# Altium footprint library BLE-Control.PcbLib: 56 footprints (part 4 of 4)
Each footprint in its own frame and in the unit in brackets; x right, y up, seen from the top. Pads: shape width x height; smd on the part's side, far side on the other; paste and mask are expansions set on the pad; w line width, h text height; cw(c..) or ccw(c..) is an arc to the next point about the centre after c.
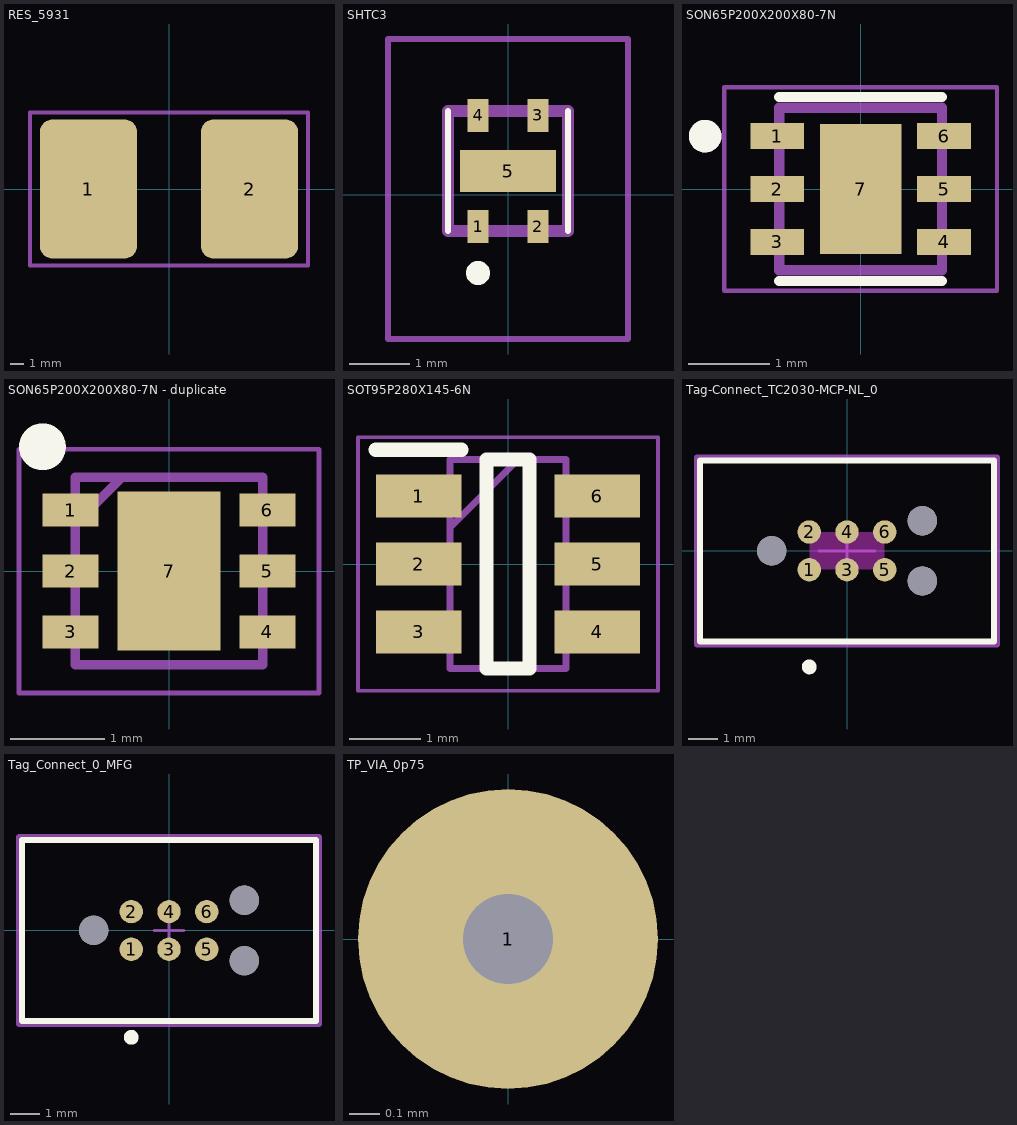
[diagram p3: the footprints below, top view; thin cyan lines are the x and y axes]

## RES_5931 [mm]
pads (2):
  rrect25% 7x10 smd: 1(-5.8,0) 2(5.8,0)
Top 3D Body:
  lines w0.3: -10,-5.5 10,-5.5 10,5.5 -10,5.5 -10,0.5 -10,-5.5
  text "'.Designator'" at -5.815,-0.9 h1
3D body "WSLP5931.stp": height 1.92, standoff 0, extent -7.5,-3.875 7.5,3.875

## SHTC3 [mm]
pads (5):
  rect 0.35x0.55 smd: 1(-0.5,-0.525) 2(0.5,-0.525) 3(0.5,1.325) 4(-0.5,1.325)
  rect 1.6x0.7 smd: 5(0,0.4)
Top Overlay:
  lines w0.1: -1,-0.6 -1,1.4 ; 1,-0.6 1,1.4
  lines w0.2: -0.6,-1.3 ccw(c-0.5,-1.3) -0.4,-1.3 ccw(c-0.5,-1.3) -0.6,-1.3
Top Courtyard:
  lines w0.2: -1,-0.6 1,-0.6 1,1.4 -1,1.4 -1,-0.6
Bottom Assembly:
  lines w0.1: -2,-2.4 2,-2.4 2,2.6 -2,2.6 -2,-2.4

## SON65P200X200X80-7N [mm]
pads (7):
  rect 0.66x0.32 smd: 1(-1.025,0.65) 2(-1.025,0) 3(-1.025,-0.65) 4(1.025,-0.65) 5(1.025,0) 6(1.025,0.65)
  rect 1x1.6 smd paste-2: 7(0,0)
Top Overlay:
  circle w0.2: c-1.91,0.65 r0.1
  lines w0.127: -1,-1.13 1,-1.13 ; -1,1.13 1,1.13
Top Paste:
  region: 0.316,-0.506 -0.316,-0.506 -0.316,0.506 0.316,0.506
Top 3D Body:
  circle w0.2: c-1.91,0.65 r0.1
  lines w0.127: -1,-1 1,-1 1,1 -1,1 -1,-1
Top Courtyard:
  lines w0.05: -1.675,-1.25 1.675,-1.25 1.675,1.25 -1.675,1.25 -1.675,-1.25
3D body "step_temp.STEP": height 0.8, standoff 0, extent -1,-1 1,1

## SON65P200X200X80-7N - duplicate [mm]
pads (7):
  rect 0.6x0.35 smd: 1(-1.05,0.65) 2(-1.05,0) 3(-1.05,-0.65) 4(1.05,-0.65) 5(1.05,0) 6(1.05,0.65)
  rect 1.1x1.7 smd: 7(0,0)
Top Overlay:
  circle w0.25: c-1.35,1.325 r0.125
Top 3D Body:
  lines w0.1: -1,0.5 -0.5,1 ; -1,-1 1,-1 1,1 -1,1 -1,-1
Top Courtyard:
  lines w0.05: -1.6,-1.3 1.6,-1.3 1.6,1.3 -1.6,1.3 -1.6,-1.3
3D body "TMP117NAIDRVR.stp": height 0.8, standoff 0, extent -1,-1 1,1

## SOT95P280X145-6N [mm]
pads (6):
  rect 1.2x0.6 smd: 1(-1.25,0.95) 2(-1.25,0) 3(-1.25,-0.95) 4(1.25,-0.95) 5(1.25,0) 6(1.25,0.95)
Top Overlay:
  lines w0.2: -1.85,1.6 -0.65,1.6 ; -0.3,-1.462 -0.3,1.462 0.3,1.462 0.3,-1.462 -0.3,-1.462
Top Courtyard:
  lines w0.1: -0.812,0.512 0.138,1.462 ; -0.812,-1.462 -0.812,1.462 0.812,1.462 0.812,-1.462 -0.812,-1.462
Bottom Assembly:
  lines w0.05: -2.1,-1.775 -2.1,1.775 2.1,1.775 2.1,-1.775 -2.1,-1.775

## Tag-Connect_TC2030-MCP-NL_0 [mil]
pads (9):
  round 30.98 smd paste-39370.1 mask+0: 1(-50,-25) 2(-50,25) 3(0,-25) 4(0,25) 5(50,-25) 6(50,25)
  round 39.02 hole 39.02 unplated paste-99999 mask+0: ""(-100,0) ""(100,-40) ""(100,40)
Top Overlay:
  circle w9.84: c-50,-153.94 r4.92
  lines w7.87: -195,-120 -195,120 195,120 195,-120 -195,-120
Keep-Out Layer:
  rectangle: -50,-25 50,25
Mechanical 10:
  lines w7.87: -198.94,-123.94 -198.94,123.94 198.94,123.94 198.94,-123.94 -198.94,-123.94
  text ".Designator" at 0,0 h39.37
Mechanical 12:
  lines w5.91: -195,-120 -195,120 195,120 195,-120 -195,-120
Top Courtyard:
  lines w3.94: -37.18,0 37.18,0 ; 0,-37.18 0,37.18
  lines w7.87: -198.94,-123.94 -198.94,123.94 198.94,123.94 198.94,-123.94 -198.94,-123.94

## Tag_Connect_0_MFG [mil]
pads (9):
  round 30.98 smd paste-39370.1 mask+0: 1(-50,-25) 2(-50,25) 3(0,-25) 4(0,25) 5(50,-25) 6(50,25)
  round 39.02 hole 39.02 unplated paste-99999 mask+0: ""(-100,0) ""(100,-40) ""(100,40)
Top Overlay:
  circle w9.84: c-50,-141.73 r4.92
  lines w7.87: -195,-120 195,-120 195,120 -195,120 -195,-120
Mechanical 10:
  lines w7.87: -198.94,-123.94 198.94,-123.94 198.94,123.94 -198.94,123.94 -198.94,-123.94
  text ".Designator" at 0,7.39 h39.37
Mechanical 12:
  lines w7.87: -195,-120 195,-120 195,120 -195,120 -195,-120
Top Courtyard:
  lines w3.94: -19.68,0 19.68,0 ; 0,-19.68 0,19.68
  lines w7.87: -198.94,-123.94 198.94,-123.94 198.94,123.94 -198.94,123.94 -198.94,-123.94

## TP_VIA_0p75 [mm]
pads (1):
  round 1 hole 0.3 mask+0: 1(0,0)